# EAGLE library part A4988-DRIVER-MOTOR (library A4988)
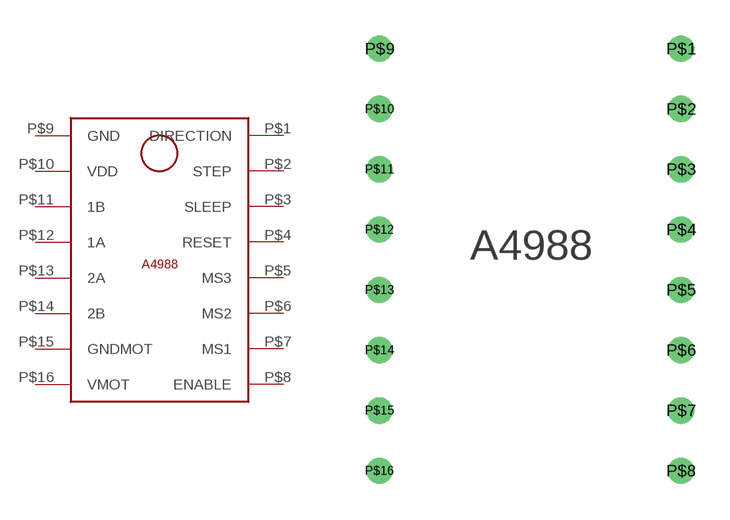
[diagram p0: symbol with the pads of A4988-DRIVER-MOTOR; footprint A4988-DRIVER-MOTOR]

Designator prefix -

## A4988-DRIVER-MOTOR  [A4988-DRIVER-MOTOR]
P$1  DIRECTION
P$2  STEP
P$3  SLEEP
P$4  RESET
P$5  MS3
P$6  MS2
P$7  MS1
P$8  ENABLE
P$9  GND
P$10  VDD
P$11  1B
P$12  1A
P$13  2A
P$14  2B
P$15  GNDMOT
P$16  VMOT

## Footprint A4988-DRIVER-MOTOR (pad centres in mm)
drill 0.6: P$1 1.27,19.05; P$2 1.27,16.51; P$3 1.27,13.97; P$4 1.27,11.43; P$5 1.27,8.89; P$6 1.27,6.35; P$7 1.27,3.81; P$8 1.27,1.27; P$9 -11.43,19.05; P$10 -11.43,16.51; P$11 -11.43,13.97; P$12 -11.43,11.43; P$13 -11.43,8.89; P$14 -11.43,6.35; P$15 -11.43,3.81; P$16 -11.43,1.27